# Altium footprint library GTZ1050_ED01r1.PcbLib: 25 footprints (part 2 of 2)
Each footprint in its own frame and in the unit in brackets; x right, y up, seen from the top. Pads: shape width x height; smd on the part's side, far side on the other; paste and mask are expansions set on the pad; w line width, h text height; cw(c..) or ccw(c..) is an arc to the next point about the centre after c.
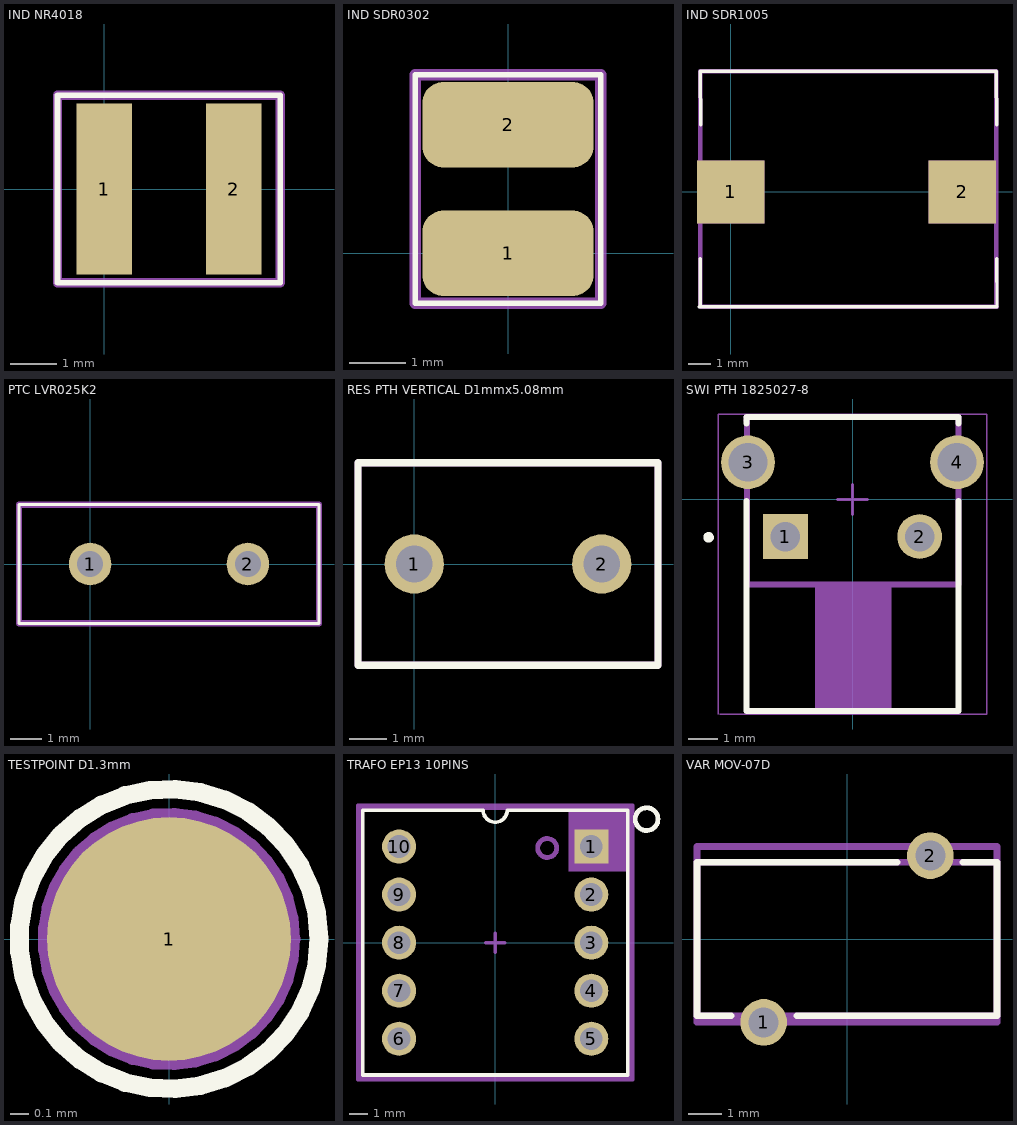
[diagram p1: the footprints below, top view; thin cyan lines are the x and y axes]

## IND NR4018 [mm]
pads (2):
  rect 1.2x3.7 smd paste+0 mask+0.025: 1(0,0) 2(2.8,0)
Top Overlay:
  lines w0.127: -1.016,-2.032 -1.016,2.032 3.81,2.032 3.81,-2.032 -1.016,-2.032
Top Assembly:
  lines w0.2: -1.016,-2.032 3.81,-2.032 3.81,2.032 -1.016,2.032 -1.016,-2.032
  text "'.Designator'" at -1.016,-0.247 h1

## IND SDR0302 [mil]
pads (2):
  rrect50% 120x60 smd paste+0 mask+1: 1(0,0) 2(0,90)
Top Overlay:
  lines w4: -65,-35 -65,125 65,125 65,-35 -65,-35
Top Assembly:
  lines w4: -65,-35 -65,125 65,125 65,-35 -65,-35
  lines w7.87: -65,-35 65,-35 65,125 -65,125 -65,-35
  text "'.Designator'" at -60,30 h39.37

## IND SDR1005 [mm]
pads (2):
  rect 3x2.8 smd: 1(0,0) 2(10.3,0)
Top Overlay:
  lines w0.15: -1.395,-5.105 11.837,-5.105 11.821,-2.966 ; -1.352,-5.105 -1.352,-2.973 ; -1.334,2.97 -1.352,5.359 11.809,5.359 11.827,2.977
Top Assembly:
  rectangle: -1.5,-1.4 1.5,1.4
  rectangle: 8.8,-1.4 11.8,1.4
  lines w0.2: -1.352,-5.105 -1.352,5.359 11.809,5.359 11.809,-5.077 11.837,-5.105 -1.352,-5.105 ; -1.352,-5.105 -1.352,-5.105
  text "'.Designator'" at 2.45,-0.236 h1
3D body "SDR1005.stp": height 5.01, standoff 0.01, extent -1.143,-4.898 11.557,5.102

## PTC LVR025K2 [mm]
pads (2):
  round 1.365 hole 0.84: 1(0,0) 2(5.05,0)
Top Overlay:
  lines w0.1: -2.275,-1.9 7.325,-1.9 7.325,1.9 -2.275,1.9 -2.275,-1.9
Mechanical 13:
  lines w0.2: -2.275,-1.9 7.325,-1.9 7.325,1.9 -2.275,1.9 -2.275,-1.9
Top Assembly:
  lines w0.2: -2.275,-1.9 -2.275,1.9 7.325,1.9 7.325,-1.9 -2.275,-1.9
  text "'.Designator'" at -0.05,-1.35 h1
3D body "LVR025K-2.stp": height 18.8, standoff -5, extent -2.275,-1.9 7.325,1.9

## RES PTH VERTICAL D1mmx5.08mm [mm]
pads (2):
  round 1.6 hole 1: 1(0,-0.001) 2(5.08,0)
Top Overlay:
  lines w0.2: -1.524,-2.743 -1.524,2.743 ; -1.516,-2.741 6.604,-2.741 ; -1.516,2.743 6.604,2.743 6.604,-2.743
Top Assembly:
  lines w0.2: -1.524,-2.743 -1.524,2.743 ; -1.515,-2.743 6.604,-2.743 ; -1.515,2.743 6.604,2.743 6.604,-2.741
  text "'.Designator'" at 0,-1.65 h1
3D body: height 11.5, standoff 0, extent -2.3,-2.3 2.3,2.3

## SWI PTH 1825027-8 [mm]
pads (4):
  rect 1.5x1.5 hole 0.99: 1(-2.25,-1.245)
  round 1.5 hole 0.99: 2(2.25,-1.245)
  round 1.8 hole 1.3: 3(-3.505,1.245) 4(3.505,1.245)
Top Overlay:
  circle w0.25: c-4.826,-1.27 r0.05
  lines w0.2: -3.555,-0.054 -3.555,-7.095 3.555,-7.095 3.555,-0.054 ; -3.555,2.544 -3.555,2.765 3.556,2.765 3.556,2.544
Mechanical 13:
  lines w0.1: -3.555,-7.095 -3.555,2.765 3.555,2.765 3.555,-7.095 -3.555,-7.095
Mechanical 15:
  lines w0.05: -4.505,-7.195 -4.505,2.865 4.505,2.865 4.505,-7.195 -4.445,-7.195
  lines w0.1: -0.5,0 0.5,0 ; 0,-0.5 0,0.5
Top Assembly:
  rectangle: -1.258,-7.095 1.307,-2.851
  lines w0.2: -3.555,2.655 -3.535,2.635 -3.535,-2.851 3.556,-2.851 3.556,2.765 -3.555,2.765
  text "'.Designator'" at -2.375,0.239 h1
3D body "c-1825027-8-g1-3d.stp": height 7, standoff -3.52, extent -4.204,-7.095 4.204,2.748

## TESTPOINT D1.3mm [mm]
pads (1):
  round 1.3 smd paste-10: 1(0,0)
Top Overlay:
  circle w0.1: c0,0 r0.8
Top Assembly:
  circle w0.1: c0,0 r0.65
  text "'.Designator'" at -0.46,-0.271 h1

## TRAFO EP13 10PINS [mm]
pads (10):
  rect 1.8x1.8 hole 1.2: 1(5.08,5.08)
  round 1.8 hole 1.2: 2(5.08,2.54) 3(5.08,0) 4(5.08,-2.54) 5(5.08,-5.08) 6(-5.08,-5.08) 7(-5.08,-2.54) 8(-5.08,0) 9(-5.08,2.54) 10(-5.08,5.08)
Top Overlay:
  circle w0.254: c8,6.525 r0.603
  lines w0.2: -7,-7 7,-7 7,7 0.635,7 cw(c0,7) -0.635,7 -7,7 -7,-7
Mechanical 1:
  circle w0.254: c2.75,5 r0.502
  lines w0.2: -7.1,-7.1 7.1,-7.1 7.1,7.1 -7.1,7.1 -7.1,-7.1
Top Assembly:
  rectangle: 3.87,3.765 7.25,7.25
  lines w0.2: -0.5,0 0.5,0 ; 0,-0.5 0,0.5 ; -7.25,-7.25 7.25,-7.25 7.25,7.25 -7.25,7.25 -7.25,-7.25
  text ".Designator" at -2.25,1.6 h1
3D body "070-4370.stp": height 12.56, standoff -2.91, extent -6.86,-6.9 6.86,6.9

## VAR MOV-07D [mm]
pads (2):
  round 1.4 hole 0.9: 1(-2.5,-2.5) 2(2.5,2.5)
Top Overlay:
  lines w0.2: -3.475,-2.3 -4.5,-2.3 -4.5,2.3 1.5,2.3 ; -1.5,-2.3 4.5,-2.3 4.5,2.3 3.475,2.3
Mechanical 13:
  lines w0.2: -4.5,-2.3 -4.5,2.3 4.5,2.3 4.5,-2.3 -4.5,-2.3
Top Assembly:
  lines w0.2: -4.487,-2.487 -4.475,-2.475 ; -4.5,-2.5 4.5,-2.5 4.5,2.775 -4.5,2.775 -4.5,-2.5
  text "'.Designator'" at -2.5,0 h1
3D body "B72205S2301K101.stp": height 8.5, standoff -5, extent -3.54,-2.424 3.46,2.276